# EAGLE library part SIM800L (library SIM800L)
SIM800L Blue EVB Board with Level Translation and diode dropper.
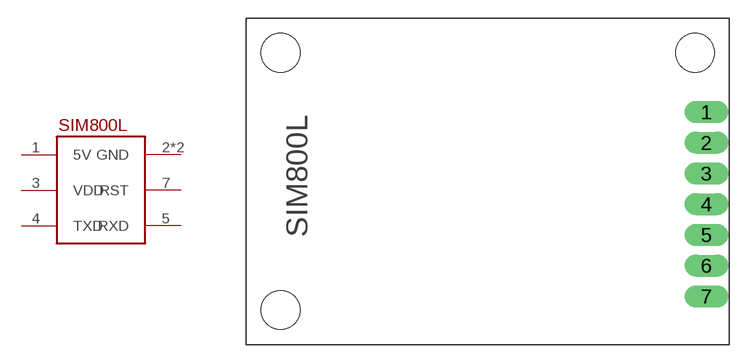
[diagram p0: symbol with the pads of SIP; footprint SIP]

Designator prefix -

## SIM800L  [SIP]
1  5V
2  GND
3  VDD
4  TXD
5  RXD
6  GND
7  RST

## Footprint SIP (pad centres in mm)
drill 1.2 long: 1 38.1,19.24; 2 38.1,16.7; 3 38.1,14.16; 4 38.1,11.62; 5 38.1,9.08; 6 38.1,6.54; 7 38.1,4
hole 3.2 at 2.87,24.13
hole 3.2 at 2.87,2.87
hole 3.2 at 37.16,24.13